# Altium integrated library BMS_Lib.IntLib: 71 symbols (part 3 of 3)
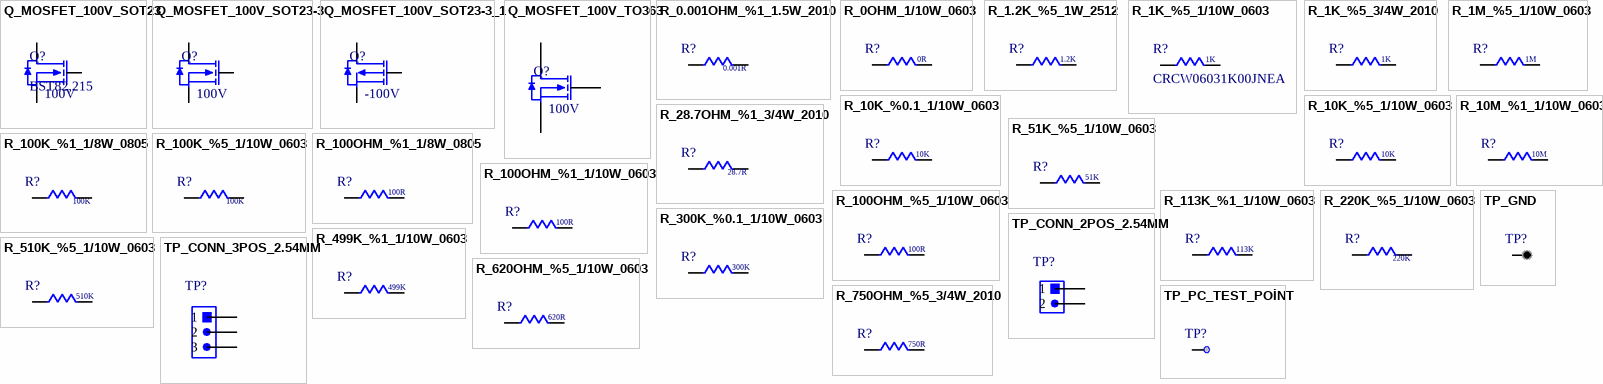
[diagram p3: symbols Q_MOSFET_100V_SOT23 to TP_PC_TEST_POİNT]

## R_100OHM_%1_1/8W_0805
designator R?, comment value 100R  (hidden comment: CRCW0805100RFKEA)
SMD Chip Resistor, 100 Ohm, ± 1%, 125 mW, 0805 [2012 Metric], Thick Film, General Purpose; Manufacturer: Vishay Dale; Voltage Rating: 150V; Temperature Coefficient: 100ppm/°C; Power Rating: 125mW; Supplier: Mouser; Supplier Part Number: 71-CRCW0805-100-E3; Manufacturer Part Number: CRCW0805100RFKEA; RoHS: Yes; Category: Chip SMD Resistors; Stock: 528495; Pricing: 1=0,1, 10=0,025, 50=0,025, 100=0,015, 1000=0,011, 10000=0,006 (USD); Case/Package: 0805; Pins: 2NUMBER; Weight: 0.000194oz; Case Code (Metric): 2012; Case Code (Imperial): 0805; Contact Plating: Tin; Min Operating Temperature: -55°C; Max Operating Temperature: 155°C; Voltage Rating (DC): 150V; Package Quantity: 10; Tolerance: 1%; Packaging: Tape and Reel; Resistor Type: Thick Film; Number of Terminations: 2; Termination: SMD/SMT; Max Power Dissipation: 125mW; Features: Automotive AEC-Q200; Series: CRCW; Technology: THICK FILM; Construction: Rectangular; Resistance Tolerance: 1%; Length: 2mm; Width: 0.049inch; Height: 0.45mm; Depth: 1.25mm; Radiation Hardening: No; Lead Free: 5697LeadFree; Military Standard: Not; RoHS Compliant: Yes; Reach SVHC Compliant: Unknown; ComponentLink1URL: https://datasheet.ciiva.com/11809/0900766b80d98b26-11809126.pdf?src-supplier=Rs; ComponentLink1Description: https://datasheet.ciiva.com/11809/0900766b80d98b26-11809126.pdf?src-supplier=Rs; ComponentLink2URL: https://datasheet.ciiva.com/5546/dcrcwe3-109170-5546700.pdf?src-supplier=Mouser; ComponentLink2Description: https://datasheet.ciiva.com/5546/dcrcwe3-109170-5546700.pdf?src-supplier=Mouser; ComponentLink3URL: https://datasheet.ciiva.com/2495/dcrcwe3-2495843.pdf?src-supplier=Digikey; ComponentLink3Description: https://datasheet.ciiva.com/2495/dcrcwe3-2495843.pdf?src-supplier=Digikey; ComponentLink4URL: https://datasheet.ciiva.com/2495/dcrcwe3-2495844.pdf?src-supplier=Digikey; ComponentLink4Description: https://datasheet.ciiva.com/2495/dcrcwe3-2495844.pdf?src-supplier=Digikey; ComponentLink5URL: https://datasheet.ciiva.com/2495/dcrcwe3-2495842.pdf?src-supplier=Digikey; ComponentLink5Description: https://datasheet.ciiva.com/2495/dcrcwe3-2495842.pdf?src-supplier=Digikey; ComponentLink6URL: https://datasheet.ciiva.com/16760/70201119-16760940.pdf?src-supplier=Allied+Electronics; ComponentLink6Description: https://datasheet.ciiva.com/16760/70201119-16760940.pdf?src-supplier=Allied+Electronics; ComponentLink7URL: https://datasheet.ciiva.com/16777/70201119-16777129.pdf?src-supplier=Allied+Electronics; ComponentLink7Description: https://datasheet.ciiva.com/16777/70201119-16777129.pdf?src-supplier=Allied+Electronics; ComponentLink8URL: https://datasheet.ciiva.com/8337/dcrcwe3-8337753.pdf?src-supplier=Avnet; ComponentLink8Description: https://datasheet.ciiva.com/8337/dcrcwe3-8337753.pdf?src-supplier=Avnet; ComponentLink9URL: https://datasheet.ciiva.com/3258/dcrcwe3-3258011.pdf?src-supplier=Avnet; ComponentLink9Description: https://datasheet.ciiva.com/3258/dcrcwe3-3258011.pdf?src-supplier=Avnet; ComponentLink10URL: https://datasheet.ciiva.com/15159/getdatasheetpartid-90825-15159895.pdf?src-supplier=Verical; ComponentLink10Description: https://datasheet.ciiva.com/15159/getdatasheetpartid-90825-15159895.pdf?src-supplier=Verical
footprint R_0805
pins: 1, 2

## R_100OHM_%1_1/10W_0603
designator R?, comment value 100R  (hidden comment: CRCW0603100RFKEA)
SMD Chip Resistor, 100 Ohm, ± 1%, 100 mW, 0603 [1608 Metric], Thick Film, General Purpose; Manufacturer: Vishay Dale; Power Rating: 100mW; Temperature Coefficient: 100ppm/°C; Voltage Rating (DC): 75V; Supplier: Mouser; Supplier Part Number: 71-CRCW0603-100-E3; Manufacturer Part Number: CRCW0603100RFKEA; RoHS: Yes; Category: Chip SMD Resistors; Stock: 279903; Pricing: 1=0,1, 10=0,017, 50=0,017, 100=0,01, 1000=0,007, 10000=0,004 (USD); Case/Package: 0603; Pins: 2NUMBER; Weight: 7.1E-05oz; Case Code (Metric): 1608; Case Code (Imperial): 0603; Min Operating Temperature: -55°C; Max Operating Temperature: 155°C; Tolerance: 1%; Packaging: Tape and Reel; Resistor Type: Thick Film; Package Quantity: 10; Voltage Rating: 75V; Number of Terminations: 2; Termination: SMD/SMT; Max Power Dissipation: 100mW; Features: Automotive AEC-Q200; Series: CRCW; Resistance Tolerance: 1%; Construction: Rectangular; Length: 1.55mm; Width: 0.033inch; Height: 0.02inch; Depth: 0.85mm; Ratings: AEC-Q200; Lead Free: 5697LeadFree; RoHS Compliant: Yes; Reach SVHC Compliant: Unknown; Military Standard: Not
footprint R_0603
pins: 1, 2

## R_100OHM_%5_1/10W_0603
designator R?, comment value 100R  (hidden comment: CRCW0603100RJNEA)
SMD Chip Resistor, 100 Ohm, ± 5%, 100 mW, 0603 [1608 Metric], Thick Film, General Purpose; Manufacturer: Vishay Dale; Temperature Coefficient: 200ppm/°C; Voltage Rating: 75V; Power Rating: 100mW; Supplier: Mouser; Supplier Part Number: 71-CRCW0603J-100-E3; Manufacturer Part Number: CRCW0603100RJNEA; RoHS: Yes; Category: Chip SMD Resistors; Stock: 90610; Pricing: 1=0,1, 10=0,028, 50=0,028, 100=0,011, 1000=0,005, 10000=0,003 (USD); Case/Package: 0603; Contact Plating: Tin; Weight: 7.1E-05oz; Case Code (Imperial): 0603; Case Code (Metric): 1608; Min Operating Temperature: -55°C; Max Operating Temperature: 155°C; Tolerance: 5%; Packaging: Tape and Reel; Package Quantity: 5000; Resistor Type: Thick Film; Number of Terminations: 2; Termination: SMD/SMT; Max Power Dissipation: 100mW; Features: Automotive AEC-Q200; Series: CRCW; Resistance Tolerance: 5%; Construction: Rectangular; Length: 1.55mm; Width: 0.85mm; Height: 0.45mm; Depth: 0.85mm; Ratings: AEC-Q200; Radiation Hardening: No; Military Standard: Not; RoHS Compliant: Yes; Reach SVHC Compliant: Unknown; Lead Free: 5697LeadFree; ComponentLink1URL: https://datasheet.ciiva.com/26944/getdatasheetpartid-45824-26944476.pdf?src-supplier=Verical; ComponentLink1Description: https://datasheet.ciiva.com/26944/getdatasheetpartid-45824-26944476.pdf?src-supplier=Verical; ComponentLink2URL: https://datasheet.ciiva.com/2461/dcrcwe3-2461977.pdf?src-supplier=Digikey; ComponentLink2Description: https://datasheet.ciiva.com/2461/dcrcwe3-2461977.pdf?src-supplier=Digikey; ComponentLink3URL: https://datasheet.ciiva.com/16755/70201119-16755598.pdf?src-supplier=Allied+Electronics; ComponentLink3Description: https://datasheet.ciiva.com/16755/70201119-16755598.pdf?src-supplier=Allied+Electronics; ComponentLink4URL: https://datasheet.ciiva.com/16214/dcrcwe3-16214053.pdf?src-supplier=Future+Electronics; ComponentLink4Description: https://datasheet.ciiva.com/16214/dcrcwe3-16214053.pdf?src-supplier=Future+Electronics; ComponentLink5URL: https://datasheet.ciiva.com/28621/1912744-28621371.pdf?src-supplier=Element14; ComponentLink5Description: https://datasheet.ciiva.com/28621/1912744-28621371.pdf?src-supplier=Element14; ComponentLink6URL: https://datasheet.ciiva.com/2461/dcrcwe3-2461978.pdf?src-supplier=Digikey; ComponentLink6Description: https://datasheet.ciiva.com/2461/dcrcwe3-2461978.pdf?src-supplier=Digikey; ComponentLink7URL: https://datasheet.ciiva.com/2461/dcrcwe3-2461979.pdf?src-supplier=Digikey; ComponentLink7Description: https://datasheet.ciiva.com/2461/dcrcwe3-2461979.pdf?src-supplier=Digikey; ComponentLink8URL: https://datasheet.ciiva.com/16786/70201119-16786717.pdf?src-supplier=Allied+Electronics; ComponentLink8Description: https://datasheet.ciiva.com/16786/70201119-16786717.pdf?src-supplier=Allied+Electronics
footprint R_0603
pins: 1, 2

## R_113K_%1_1/10W_0603
designator R?, comment value 113K  (hidden comment: CRCW0603113KFKEA)
SMD Chip Resistor, 113 kOhm, ± 1%, 100 mW, 0603 [1608 Metric], Thick Film, General Purpose; Manufacturer: Vishay; Voltage Rating (DC): 75V; Supplier: Mouser; Supplier Part Number: 71-CRCW0603-113K-E3; Manufacturer Part Number: CRCW0603113KFKEA; RoHS: Yes; Category: Chip SMD Resistors; Stock: 22290; Pricing: 1=0,1, 10=0,017, 50=0,017, 100=0,01, 1000=0,008, 10000=0,004 (USD); Lead Free: 5697LeadFree; ComponentLink1URL: https://datasheet.ciiva.com/22675/1847332-22675177.pdf?src-supplier=Element14; ComponentLink1Description: https://datasheet.ciiva.com/22675/1847332-22675177.pdf?src-supplier=Element14; ComponentLink2URL: https://datasheet.ciiva.com/22705/1697337-22705837.pdf?src-supplier=Element14; ComponentLink2Description: https://datasheet.ciiva.com/22705/1697337-22705837.pdf?src-supplier=Element14; ComponentLink3URL: https://datasheet.ciiva.com/7714/1697337-7714198.pdf?src-supplier=Element14; ComponentLink3Description: https://datasheet.ciiva.com/7714/1697337-7714198.pdf?src-supplier=Element14; ComponentLink4URL: https://datasheet.ciiva.com/7714/1697337-7714199.pdf?src-supplier=Element14; ComponentLink4Description: https://datasheet.ciiva.com/7714/1697337-7714199.pdf?src-supplier=Element14; ComponentLink5URL: https://datasheet.ciiva.com/3256/dcrcwe3-3256968.pdf?src-supplier=Avnet; ComponentLink5Description: https://datasheet.ciiva.com/3256/dcrcwe3-3256968.pdf?src-supplier=Avnet; ComponentLink6URL: https://datasheet.ciiva.com/5546/dcrcwe3-109170-5546712.pdf?src-supplier=Mouser; ComponentLink6Description: https://datasheet.ciiva.com/5546/dcrcwe3-109170-5546712.pdf?src-supplier=Mouser; ComponentLink7URL: https://datasheet.ciiva.com/2466/dcrcwe3-2466602.pdf?src-supplier=Digikey; ComponentLink7Description: https://datasheet.ciiva.com/2466/dcrcwe3-2466602.pdf?src-supplier=Digikey; ComponentLink8URL: https://datasheet.ciiva.com/2466/dcrcwe3-2466603.pdf?src-supplier=Digikey; ComponentLink8Description: https://datasheet.ciiva.com/2466/dcrcwe3-2466603.pdf?src-supplier=Digikey; ComponentLink9URL: https://datasheet.ciiva.com/2466/dcrcwe3-2466604.pdf?src-supplier=Digikey; ComponentLink9Description: https://datasheet.ciiva.com/2466/dcrcwe3-2466604.pdf?src-supplier=Digikey
footprint R_0603
pins: 1, 2

## R_220K_%5_1/10W_0603
designator R?, comment value 220K  (hidden comment: CRCW0603220KJNEA)
SMD Chip Resistor, 220 kOhm, ± 5%, 100 mW, 0603 [1608 Metric], Thick Film, General Purpose; Manufacturer: Vishay Dale; Voltage Rating (DC): 75V; Supplier: Mouser; Supplier Part Number: 71-CRCW0603J-220K-E3; Manufacturer Part Number: CRCW0603220KJNEA; RoHS: Yes; Category: Chip SMD Resistors; Stock: 26996; Pricing: 1=0,1, 10=0,017, 50=0,017, 100=0,008, 1000=0,006, 10000=0,003 (USD); Lead Free: 5697LeadFree; ComponentLink1URL: https://datasheet.ciiva.com/3257/dcrcwe3-3257263.pdf?src-supplier=Avnet; ComponentLink1Description: https://datasheet.ciiva.com/3257/dcrcwe3-3257263.pdf?src-supplier=Avnet; ComponentLink2URL: https://datasheet.ciiva.com/28606/1847332-28606727.pdf?src-supplier=Element14; ComponentLink2Description: https://datasheet.ciiva.com/28606/1847332-28606727.pdf?src-supplier=Element14; ComponentLink3URL: https://datasheet.ciiva.com/7386/1914725-7386263.pdf?src-supplier=Newark; ComponentLink3Description: https://datasheet.ciiva.com/7386/1914725-7386263.pdf?src-supplier=Newark; ComponentLink4URL: https://datasheet.ciiva.com/5545/dcrcwe3-109170-5545756.pdf?src-supplier=Mouser; ComponentLink4Description: https://datasheet.ciiva.com/5545/dcrcwe3-109170-5545756.pdf?src-supplier=Mouser; ComponentLink5URL: https://datasheet.ciiva.com/2462/dcrcwe3-2462337.pdf?src-supplier=Digikey; ComponentLink5Description: https://datasheet.ciiva.com/2462/dcrcwe3-2462337.pdf?src-supplier=Digikey; ComponentLink6URL: https://datasheet.ciiva.com/2462/dcrcwe3-2462338.pdf?src-supplier=Digikey; ComponentLink6Description: https://datasheet.ciiva.com/2462/dcrcwe3-2462338.pdf?src-supplier=Digikey; ComponentLink7URL: https://datasheet.ciiva.com/2462/dcrcwe3-2462339.pdf?src-supplier=Digikey; ComponentLink7Description: https://datasheet.ciiva.com/2462/dcrcwe3-2462339.pdf?src-supplier=Digikey
footprint R_0603
pins: 1, 2

## R_300K_%0.1_1/10W_0603
designator R?, comment value 300K  (hidden comment: RG1608P-304-B-T5)
Res Thin Film 0603 300K Ohm 0.1% 0.1W(1/10W) ±25ppm/C Sulfur Resistant Pad SMD Automotive T/R; Manufacturer: Susumu; Supplier: Mouser; Supplier Part Number: 754-RG1608P-304-B-T5; Manufacturer Part Number: RG1608P-304-B-T5; RoHS: Yes; Category: Chip SMD Resistors; Stock: 20648; Pricing: 1=0,21, 10=0,119, 50=0,119, 100=0,107, 1000=0,069, 10000=0,051 (USD); ComponentLink1URL: https://datasheet.ciiva.com/5625/rg-rm-rgh-datasheet-5625690.pdf?src-supplier=Mouser; ComponentLink1Description: https://datasheet.ciiva.com/5625/rg-rm-rgh-datasheet-5625690.pdf?src-supplier=Mouser; ComponentLink2URL: https://datasheet.ciiva.com/17424/rg-rm-rgh-datasheet-17424710.pdf?src-supplier=Future+Electronics; ComponentLink2Description: https://datasheet.ciiva.com/17424/rg-rm-rgh-datasheet-17424710.pdf?src-supplier=Future+Electronics
footprint R_0603
pins: 1, 2

## R_499K_%1_1/10W_0603
designator R?, comment value 499K  (hidden comment: CRCW0603499KFKEA)
SMD Chip Resistor, 499 kOhm, ± 1%, 100 mW, 0603 [1608 Metric], Thick Film, General Purpose; Manufacturer: Vishay; Supplier: Mouser; Supplier Part Number: 71-CRCW0603-499K-E3; Manufacturer Part Number: CRCW0603499KFKEA; RoHS: Yes; Category: Chip SMD Resistors; Stock: 28370; Pricing: 1=0,1, 10=0,017, 50=0,017, 100=0,01, 1000=0,007, 10000=0,004 (USD); Lead Free: 5697LeadFree; ComponentLink1URL: https://datasheet.ciiva.com/11811/0900766b80d98afc-11811204.pdf?src-supplier=Rs; ComponentLink1Description: https://datasheet.ciiva.com/11811/0900766b80d98afc-11811204.pdf?src-supplier=Rs; ComponentLink2URL: https://datasheet.ciiva.com/3257/dcrcwe3-3257647.pdf?src-supplier=Avnet; ComponentLink2Description: https://datasheet.ciiva.com/3257/dcrcwe3-3257647.pdf?src-supplier=Avnet; ComponentLink3URL: https://datasheet.ciiva.com/7168/1635184-7168517.pdf?src-supplier=Newark; ComponentLink3Description: https://datasheet.ciiva.com/7168/1635184-7168517.pdf?src-supplier=Newark; ComponentLink4URL: https://datasheet.ciiva.com/5551/dcrcwe3-109170-5551960.pdf?src-supplier=Mouser; ComponentLink4Description: https://datasheet.ciiva.com/5551/dcrcwe3-109170-5551960.pdf?src-supplier=Mouser; ComponentLink5URL: https://datasheet.ciiva.com/7792/125364-7792298.pdf?src-supplier=Element14; ComponentLink5Description: https://datasheet.ciiva.com/7792/125364-7792298.pdf?src-supplier=Element14; ComponentLink6URL: https://datasheet.ciiva.com/2465/dcrcwe3-2465609.pdf?src-supplier=Digikey; ComponentLink6Description: https://datasheet.ciiva.com/2465/dcrcwe3-2465609.pdf?src-supplier=Digikey; ComponentLink7URL: https://datasheet.ciiva.com/2465/dcrcwe3-2465610.pdf?src-supplier=Digikey; ComponentLink7Description: https://datasheet.ciiva.com/2465/dcrcwe3-2465610.pdf?src-supplier=Digikey; ComponentLink8URL: https://datasheet.ciiva.com/2465/dcrcwe3-2465611.pdf?src-supplier=Digikey; ComponentLink8Description: https://datasheet.ciiva.com/2465/dcrcwe3-2465611.pdf?src-supplier=Digikey
footprint R_0603
pins: 1, 2

## R_510K_%5_1/10W_0603
designator R?, comment value 510K  (hidden comment: CRCW0603510KJNEA)
SMD Chip Resistor, 510 kOhm, ± 5%, 100 mW, 0603 [1608 Metric], Thick Film, General Purpose; Manufacturer: Vishay Dale; Supplier: Mouser; Supplier Part Number: 71-CRCW0603J-510K-E3; Manufacturer Part Number: CRCW0603510KJNEA; RoHS: Yes; Category: Chip SMD Resistors; Stock: 25702; Pricing: 1=0,1, 10=0,016, 50=0,016, 100=0,009, 1000=0,007, 10000=0,004 (USD); ComponentLink1URL: https://datasheet.ciiva.com/8931/dcrcwe3-8931611.pdf?src-supplier=Avnet; ComponentLink1Description: https://datasheet.ciiva.com/8931/dcrcwe3-8931611.pdf?src-supplier=Avnet; ComponentLink2URL: https://datasheet.ciiva.com/3257/dcrcwe3-3257687.pdf?src-supplier=Avnet; ComponentLink2Description: https://datasheet.ciiva.com/3257/dcrcwe3-3257687.pdf?src-supplier=Avnet; ComponentLink3URL: https://datasheet.ciiva.com/5551/dcrcwe3-109170-5551196.pdf?src-supplier=Mouser; ComponentLink3Description: https://datasheet.ciiva.com/5551/dcrcwe3-109170-5551196.pdf?src-supplier=Mouser; ComponentLink4URL: https://datasheet.ciiva.com/2462/dcrcwe3-2462346.pdf?src-supplier=Digikey; ComponentLink4Description: https://datasheet.ciiva.com/2462/dcrcwe3-2462346.pdf?src-supplier=Digikey; ComponentLink5URL: https://datasheet.ciiva.com/2462/dcrcwe3-2462347.pdf?src-supplier=Digikey; ComponentLink5Description: https://datasheet.ciiva.com/2462/dcrcwe3-2462347.pdf?src-supplier=Digikey; ComponentLink6URL: https://datasheet.ciiva.com/2462/dcrcwe3-2462348.pdf?src-supplier=Digikey; ComponentLink6Description: https://datasheet.ciiva.com/2462/dcrcwe3-2462348.pdf?src-supplier=Digikey; ComponentLink7URL: https://datasheet.ciiva.com/16204/dcrcwe3-16204202.pdf?src-supplier=Future+Electronics; ComponentLink7Description: https://datasheet.ciiva.com/16204/dcrcwe3-16204202.pdf?src-supplier=Future+Electronics
footprint R_0603
pins: 1, 2

## R_620OHM_%5_1/10W_0603
designator R?, comment value 620R  (hidden comment: CRCW0603620RJNEA)
SMD Chip Resistor, 620 Ohm, ± 5%, 100 mW, 0603 [1608 Metric], Thick Film, General Purpose; Manufacturer: Vishay Dale; Supplier: Mouser; Supplier Part Number: 71-CRCW0603J-620-E3; Manufacturer Part Number: CRCW0603620RJNEA; RoHS: Yes; Category: Chip SMD Resistors; Stock: 82648; Pricing: 1=0,1, 10=0,016, 50=0,016, 100=0,009, 1000=0,007, 10000=0,005 (USD); ComponentLink1URL: https://datasheet.ciiva.com/3257/dcrcwe3-3257798.pdf?src-supplier=Avnet; ComponentLink1Description: https://datasheet.ciiva.com/3257/dcrcwe3-3257798.pdf?src-supplier=Avnet; ComponentLink2URL: https://datasheet.ciiva.com/3257/dcrcwe3-3257799.pdf?src-supplier=Avnet; ComponentLink2Description: https://datasheet.ciiva.com/3257/dcrcwe3-3257799.pdf?src-supplier=Avnet; ComponentLink3URL: https://datasheet.ciiva.com/16202/dcrcwe3-16202431.pdf?src-supplier=Future+Electronics; ComponentLink3Description: https://datasheet.ciiva.com/16202/dcrcwe3-16202431.pdf?src-supplier=Future+Electronics; ComponentLink4URL: https://datasheet.ciiva.com/2512/dcrcwe3-2512009.pdf?src-supplier=Digikey; ComponentLink4Description: https://datasheet.ciiva.com/2512/dcrcwe3-2512009.pdf?src-supplier=Digikey; ComponentLink5URL: https://datasheet.ciiva.com/2512/dcrcwe3-2512010.pdf?src-supplier=Digikey; ComponentLink5Description: https://datasheet.ciiva.com/2512/dcrcwe3-2512010.pdf?src-supplier=Digikey; ComponentLink6URL: https://datasheet.ciiva.com/2512/dcrcwe3-2512011.pdf?src-supplier=Digikey; ComponentLink6Description: https://datasheet.ciiva.com/2512/dcrcwe3-2512011.pdf?src-supplier=Digikey
footprint R_0603
pins: 1, 2

## R_750OHM_%5_3/4W_2010
designator R?, comment value 750R  (hidden comment: CRCW2010750RJNEF)
SMD Chip Resistor, 750 Ohm, ± 5%, 750 mW, 2010 [5025 Metric], Thick Film, General Purpose; Manufacturer: Vishay Dale; Temperature Coefficient: 200ppm/°C; Max Power Dissipation: 750mW; Voltage Rating: 400V; Supplier: Mouser; Supplier Part Number: 71-CRCW2010750RJNEF; Manufacturer Part Number: CRCW2010750RJNEF; RoHS: Yes; Category: Chip SMD Resistors; Stock: 6201; Pricing: 1=0,26, 10=0,091, 50=0,091, 100=0,058, 1000=0,048, 10000=0,034 (USD); Case/Package: 2010; Weight: 0.001372oz; Case Code (Metric): 5025; Case Code (Imperial): 2010; Contact Plating: Tin; Min Operating Temperature: -55°C; Max Operating Temperature: 155°C; Packaging: Tape and Reel; Tolerance: 5%; Package Quantity: 4000; Number of Terminations: 2; Features: Automotive AEC-Q200; Series: CRCW; Power Rating: 750mW; Termination: SMD/SMT; Voltage Rating (DC): 400V; Length: 5mm; Width: 2.5mm; Height: 0.6mm; Ratings: AEC-Q200; Radiation Hardening: No; Lead Free: Lead Free; RoHS Compliant: Yes; ComponentLink1URL: https://datasheet.ciiva.com/2476/dcrcwe3-2476554.pdf?src-supplier=Digikey; ComponentLink1Description: https://datasheet.ciiva.com/2476/dcrcwe3-2476554.pdf?src-supplier=Digikey; ComponentLink2URL: https://datasheet.ciiva.com/2476/dcrcwe3-2476555.pdf?src-supplier=Digikey; ComponentLink2Description: https://datasheet.ciiva.com/2476/dcrcwe3-2476555.pdf?src-supplier=Digikey; ComponentLink3URL: https://datasheet.ciiva.com/2476/dcrcwe3-2476556.pdf?src-supplier=Digikey; ComponentLink3Description: https://datasheet.ciiva.com/2476/dcrcwe3-2476556.pdf?src-supplier=Digikey; ComponentLink4URL: https://datasheet.ciiva.com/8922/dcrcwe3-8922007.pdf?src-supplier=Avnet; ComponentLink4Description: https://datasheet.ciiva.com/8922/dcrcwe3-8922007.pdf?src-supplier=Avnet; ComponentLink5URL: https://datasheet.ciiva.com/16389/dcrcwe3-16389883.pdf?src-supplier=Future+Electronics; ComponentLink5Description: https://datasheet.ciiva.com/16389/dcrcwe3-16389883.pdf?src-supplier=Future+Electronics; ComponentLink6URL: https://datasheet.ciiva.com/5552/dcrcwe3-109170-5552367.pdf?src-supplier=Mouser; ComponentLink6Description: https://datasheet.ciiva.com/5552/dcrcwe3-109170-5552367.pdf?src-supplier=Mouser
footprint R_2010
pins: 1, 2

## TP_CONN_2POS_2.54MM
designator TP?, comment PEC02SAAN  (value not drawn)
Conn Unshrouded Header HDR 2 POS 2.54mm Solder ST Top Entry Thru-Hole; Manufacturer: Sullins; Gender: 29Gender; Number of Contacts: 2NUMBER; Current Rating: 3A; Supplier: Future Electronics; Supplier Part Number: 7889157; Manufacturer Part Number: PEC02SAAN; RoHS: Yes; Category: Headers and Wire Housings; Stock: 4156; Pricing: 1=0,103, 400=0,0989, 1250=0,0947, 4000=0,0906, 12500=0,0829 (USD); Housing Color: 46Colour; Contact Material: 150,153,154ConductorMaterial; Housing Material: 4239ConductorMaterial; Min Operating Temperature: -65°C; Max Operating Temperature: 125°C; Length: 5.08mm; Width: 2.54mm; Height: 2.54mm; Lead Free: 5697LeadFree; ComponentLink1URL: https://datasheet.ciiva.com/16213/pec02saan-16213358.pdf?src-supplier=Future+Electronics; ComponentLink1Description: https://datasheet.ciiva.com/16213/pec02saan-16213358.pdf?src-supplier=Future+Electronics
footprint TP_2POS
pins: 1, 2

## TP_CONN_3POS_2.54MM
designator TP?, comment PEC03SAAN  (value not drawn)
PEC Series Single Row 3 Position 2.54 mm Straight Breakaway Header; Manufacturer: Sullins; Supplier: Digikey; Supplier Part Number: S1012E-03-ND; Manufacturer Part Number: PEC03SAAN; RoHS: Yes; Category: Connectors; Stock: 17576; Pricing: 1=0,18, 10=0,155, 100=0,1193, 500=0,10092, 1000=0,08257, 5000=0,0734, 10000=0,06652 (USD); ComponentLink1URL: http://www.sullinscorp.com/catalogs/97_Page78-79_HEADER_.100_2.54mm_MALE_BREAKAWAY.pdf?src-supplier=Future+Electronics; ComponentLink1Description: http://www.sullinscorp.com/catalogs/97_Page78-79_HEADER_.100_2.54mm_MALE_BREAKAWAY.pdf?src-supplier=Future+Electronics; ComponentLink2URL: https://s3.amazonaws.com/catalogspreads-pdf/PAGE112-113%20.100%20MALE%20HDR.pdf?src-supplier=Digikey; ComponentLink2Description: https://s3.amazonaws.com/catalogspreads-pdf/PAGE112-113%20.100%20MALE%20HDR.pdf?src-supplier=Digikey; ComponentLink3URL: https://datasheet.octopart.com/PEC03SAAN-Sullins-datasheet-41399297.pdf?src-supplier=Future+Electronics; ComponentLink3Description: https://datasheet.octopart.com/PEC03SAAN-Sullins-datasheet-41399297.pdf?src-supplier=Future+Electronics
footprint TP_3POS
pins: 1, 2, 3

## TP_GND
designator TP?, comment TEST POİNT  (value not drawn)
footprint TP_GND
pins: 1

## TP_PC_TEST_POİNT
designator TP?, comment 5011  (value not drawn)
TEST POINT, PCB, THROUGH HOLE; Product R; Range: -; Connector Colour: Black; Mounting: Through Hole; Manufacturer: Keystone Electronics; Gender: 30Gender; Inside Diameter: 1.78mm; Supplier: Future Electronics; Supplier Part Number: 5322706; Manufacturer Part Number: 5011; RoHS: Yes; Category: Connectors; Stock: 212621; Pricing: 1=0,169, 200=0,164, 500=0,159, 1250=0,154, 3000=0,144 (USD); Length: 11.3mm; Lead Free: 5697LeadFree; ComponentLink1URL: https://datasheet.ciiva.com/11744/0900766b8009b7c7-11744935.pdf?src-supplier=Rs; ComponentLink1Description: https://datasheet.ciiva.com/11744/0900766b8009b7c7-11744935.pdf?src-supplier=Rs; ComponentLink2URL: https://datasheet.ciiva.com/1454/1718230-1454834.pdf?src-supplier=Element14; ComponentLink2Description: https://datasheet.ciiva.com/1454/1718230-1454834.pdf?src-supplier=Element14; ComponentLink3URL: https://datasheet.ciiva.com/46412/1703983-46412138.pdf?src-supplier=Element14; ComponentLink3Description: https://datasheet.ciiva.com/46412/1703983-46412138.pdf?src-supplier=Element14; ComponentLink4URL: https://datasheet.ciiva.com/16351/m60-2p60-16351093.pdf?src-supplier=Future+Electronics; ComponentLink4Description: https://datasheet.ciiva.com/16351/m60-2p60-16351093.pdf?src-supplier=Future+Electronics; ComponentLink5URL: https://datasheet.ciiva.com/2917/5011-2917635.pdf?src-supplier=Digikey; ComponentLink5Description: https://datasheet.ciiva.com/2917/5011-2917635.pdf?src-supplier=Digikey
footprint TP_VİA
pins: 1